# Altium footprint library V2_wearable.PcbLib: 59 footprints (part 3 of 4)
Each footprint in its own frame and in the unit in brackets; x right, y up, seen from the top. Pads: shape width x height; smd on the part's side, far side on the other; paste and mask are expansions set on the pad; w line width, h text height; cw(c..) or ccw(c..) is an arc to the next point about the centre after c.
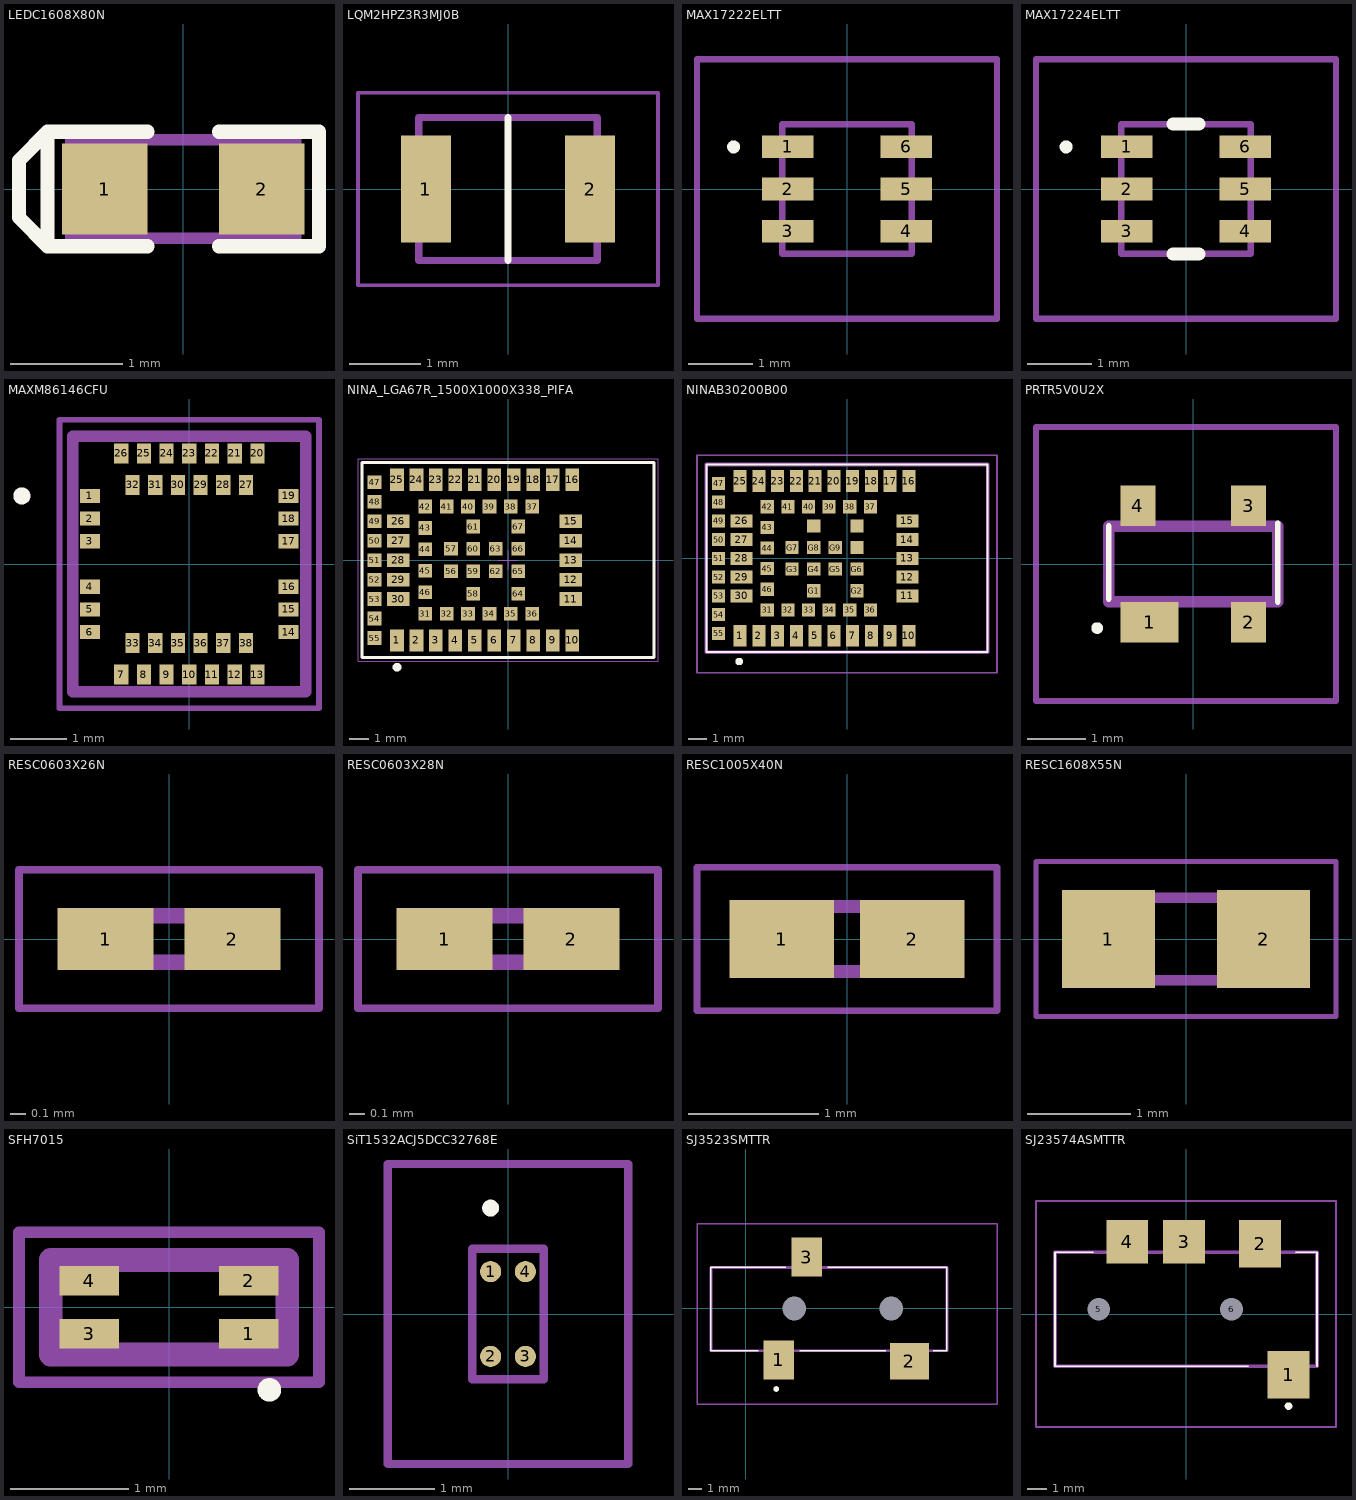
[diagram p2: the footprints below, top view; thin cyan lines are the x and y axes]

## LEDC1608X80N [mil]
pads (2):
  rect 30x32 smd: 1(-27.5,0) 2(27.5,0)
Top Overlay:
  lines w5: -12.5,-20 -47.5,-20 ; -12.5,20 -47.5,20 ; 12.5,-20 47.5,-20 47.5,20 12.5,20 ; -47.5,-20 -47.5,20 ; -47.5,-20 -57.5,-10 -57.5,10 -47.5,20
Mechanical 7:
  lines w3.94: -27.56,-17.26 -27.56,17.26 ; -23.62,-17.26 -23.62,17.26 ; 23.62,-17.26 23.62,17.26 ; 27.56,-17.26 27.56,17.26 ; -39.37,-17.26 39.37,-17.26 39.37,17.26 -39.37,17.26 -39.37,-17.26
  text ".Designator" at -39,22 h12
3D body "LS_Q976-NR-1.stp": height 32.69, standoff 0.8, extent -31.5,-15.75 31.5,15.75

## LQM2HPZ3R3MJ0B [mm]
pads (2):
  rect 0.7x1.5 smd: 1(-1.15,0) 2(1.15,0)
Top Overlay:
  lines w0.1: 0,-1 0,1
Mechanical 13:
  lines w0.1: -1.25,-1 -1.25,1 1.25,1 1.25,-1 -1.25,-1
Mechanical 15:
  lines w0.05: -2.1,-1.35 -2.1,1.35 2.1,1.35 2.1,-1.35 -2.1,-1.35
3D body "LQM2HPN2R2MJ0L.stp": height 1.11, standoff 0.01, extent -1.375,-1.125 1.375,1.125

## MAX17222ELTT [mm]
pads (6):
  rect 0.8x0.35 smd: 1(-0.915,0.65) 2(-0.915,0) 3(-0.915,-0.65) 4(0.915,-0.65) 5(0.915,0) 6(0.915,0.65)
Top Overlay:
  lines w0.1: -1.8,0.65 ccw(c-1.75,0.65) -1.7,0.65 ccw(c-1.75,0.65) -1.8,0.65
Mechanical 13:
  lines w0.1: -1,-1 -1,1 1,1 1,-1 -1,-1
Mechanical 15:
  lines w0.1: -2.315,-2 -2.315,2 2.315,2 2.315,-2 -2.315,-2
3D body "MAX17222ELT+T.stp": height 0.9, standoff 0, extent -1,-1 1,1

## MAX17224ELTT [mm]
pads (6):
  rect 0.8x0.35 smd: 1(-0.915,0.65) 2(-0.915,0) 3(-0.915,-0.65) 4(0.915,-0.65) 5(0.915,0) 6(0.915,0.65)
Top Overlay:
  lines w0.1: -1.9,0.65 cw(c-1.85,0.65) -1.8,0.65 cw(c-1.85,0.65) -1.9,0.65
  lines w0.2: -0.2,-1 0.2,-1 ; -0.2,1 0.2,1
Mechanical 13:
  lines w0.1: -1,-1 -1,1 1,1 1,-1 -1,-1
Mechanical 15:
  lines w0.1: -2.315,-2 -2.315,2 2.315,2 2.315,-2 -2.315,-2
3D body "MAX17224ELT+T.stp": height 0.9, standoff 0, extent -1,-1 1,1

## MAXM86146CFU [mm]
pads (38):
  rect 0.35x0.25 smd: 1(-1.75,1.2) 2(-1.75,0.8) 3(-1.75,0.4) 4(-1.75,-0.4) 5(-1.75,-0.8) 6(-1.75,-1.2) 14(1.75,-1.2) 15(1.75,-0.8) 16(1.75,-0.4) 17(1.75,0.4) 18(1.75,0.8) 19(1.75,1.2)
  rect 0.25x0.35 smd: 7(-1.2,-1.95) 8(-0.8,-1.95) 9(-0.4,-1.95) 10(0,-1.95) 11(0.4,-1.95) 12(0.8,-1.95) 13(1.2,-1.95) 20(1.2,1.95) 21(0.8,1.95) 22(0.4,1.95) 23(0,1.95) 24(-0.4,1.95) 25(-0.8,1.95) 26(-1.2,1.95) 27(1,1.395) 28(0.6,1.395) 29(0.2,1.395) 30(-0.2,1.395) 31(-0.6,1.395) 32(-1,1.395) 33(-1,-1.395) 34(-0.6,-1.395) 35(-0.2,-1.395) 36(0.2,-1.395) 37(0.6,-1.395) 38(1,-1.395)
Top Overlay:
  lines w0.2: -3,1.2 ccw(c-2.95,1.2) -2.9,1.2 ; -3,1.2 cw(c-2.95,1.2) -2.9,1.2 ; -3,1.2 ccw(c-2.95,1.2) -2.9,1.2
Mechanical 13:
  lines w0.2: -2.05,-2.25 -2.05,2.25 2.05,2.25 2.05,-2.25 -2.05,-2.25
Mechanical 15:
  lines w0.1: -2.286,-2.54 -2.286,2.54 2.286,2.54 2.286,-2.54 -2.286,-2.54
3D body "MAXM86146CFU+.stp": height 1.07, standoff 0, extent -2.05,-2.25 2.05,2.25

## NINA_LGA67R_1500X1000X338_PIFA [mm] "Stand-alone Bluetooth low energy module"
height 3.38
pads (67):
  rect 0.7x1.15 smd paste+0 mask+0.05: 1(-5.7,-4.125) 2(-4.7,-4.125) 3(-3.7,-4.125) 4(-2.7,-4.125) 5(-1.7,-4.125) 6(-0.7,-4.125) 7(0.3,-4.125) 8(1.3,-4.125) 9(2.3,-4.125) 10(3.3,-4.125) 16(3.3,4.125) 17(2.3,4.125) 18(1.3,4.125) 19(0.3,4.125) 20(-0.7,4.125) 21(-1.7,4.125) 22(-2.7,4.125) 23(-3.7,4.125) 24(-4.7,4.125) 25(-5.7,4.125)
  rect 1.15x0.7 smd paste+0 mask+0.05: 11(3.225,-2) 12(3.225,-1) 13(3.225,0) 14(3.225,1) 15(3.225,2) 26(-5.625,2) 27(-5.625,1) 28(-5.625,0) 29(-5.625,-1) 30(-5.625,-2)
  rect 0.7x0.7 smd paste+0 mask+0.05: 31(-4.25,-2.75) 32(-3.15,-2.75) 33(-2.05,-2.75) 34(-0.95,-2.75) 35(0.15,-2.75) 36(1.25,-2.75) 37(1.25,2.75) 38(0.15,2.75) 39(-0.95,2.75) 40(-2.05,2.75) 41(-3.15,2.75) 42(-4.25,2.75) 43(-4.25,1.65) 44(-4.25,0.55) 45(-4.25,-0.55) 46(-4.25,-1.65) 47(-6.85,4) 48(-6.85,3) 49(-6.85,2) 50(-6.85,1) 51(-6.85,0) 52(-6.85,-1) 53(-6.85,-2) 54(-6.85,-3) 55(-6.85,-4) 56(-2.925,-0.575) 57(-2.925,0.575) 58(-1.775,-1.725) 59(-1.775,-0.575) 60(-1.775,0.575) 61(-1.775,1.725) 62(-0.625,-0.575) 63(-0.625,0.575) 64(0.525,-1.725) 65(0.525,-0.575) 66(0.525,0.575) 67(0.525,1.725)
Top Overlay:
  circle w0.254: c-5.7,-5.5 r0.1
  lines w0.15: -7.5,-5 7.5,-5 7.5,5 -7.5,5 -7.5,-5
Mechanical 13:
  lines w0.1: -7.5,-5 7.5,-5 7.5,5 -7.5,5 -7.5,-5
Mechanical 15:
  lines w0.05: -0.5,0 0.5,0 ; 0,-0.5 0,0.5 ; -7.7,-5.2 7.7,-5.2 7.7,5.2 -7.7,5.2 -7.7,-5.2
  text ".Designator" at 0.1,0.433 h1
3D body "NINA-B312_mechanical_model.stp": height 3.91, standoff 0.03, extent -7.5,-5 7.5,5

## NINAB30200B00 [mm]
pads (67):
  rect 0.7x1.15 smd: 1(-5.7,-4.125) 2(-4.7,-4.125) 3(-3.7,-4.125) 4(-2.7,-4.125) 5(-1.7,-4.125) 6(-0.7,-4.125) 7(0.3,-4.125) 8(1.3,-4.125) 9(2.3,-4.125) 10(3.3,-4.125) 16(3.3,4.125) 17(2.3,4.125) 18(1.3,4.125) 19(0.3,4.125) 20(-0.7,4.125) 21(-1.7,4.125) 22(-2.7,4.125) 23(-3.7,4.125) 24(-4.7,4.125) 25(-5.7,4.125)
  rect 1.15x0.7 smd: 11(3.225,-2) 12(3.225,-1) 13(3.225,0) 14(3.225,1) 15(3.225,2) 26(-5.625,2) 27(-5.625,1) 28(-5.625,0) 29(-5.625,-1) 30(-5.625,-2)
  rect 0.7x0.7 smd: 31(-4.25,-2.75) 32(-3.15,-2.75) 33(-2.05,-2.75) 34(-0.95,-2.75) 35(0.15,-2.75) 36(1.25,-2.75) 37(1.25,2.75) 38(0.15,2.75) 39(-0.95,2.75) 40(-2.05,2.75) 41(-3.15,2.75) 42(-4.25,2.75) 43(-4.25,1.65) 44(-4.25,0.55) 45(-4.25,-0.55) 46(-4.25,-1.65) 47(-6.85,4) 48(-6.85,3) 49(-6.85,2) 50(-6.85,1) 51(-6.85,0) 52(-6.85,-1) 53(-6.85,-2) 54(-6.85,-3) 55(-6.85,-4) G1(-1.775,-1.725) G2(0.525,-1.725) G3(-2.925,-0.575) G4(-1.775,-0.575) G5(-0.625,-0.575) G6(0.525,-0.575) G7(-2.925,0.575) G8(-1.775,0.575) G9(-0.625,0.575) G10(0.525,0.575) G11(-1.775,1.725) G12(0.525,1.725)
Top Overlay:
  lines w0.1: -7.5,-5 -7.5,5 7.5,5 7.5,-5 -7.5,-5
  lines w0.2: -5.85,-5.5 cw(c-5.75,-5.5) -5.65,-5.5 cw(c-5.75,-5.5) -5.85,-5.5
Mechanical 13:
  lines w0.2: -7.5,-5 -7.5,5 7.5,5 7.5,-5 -7.5,-5
Mechanical 15:
  lines w0.1: -8,-6.1 -8,5.5 8,5.5 8,-6.1 -8,-6.1
3D body "NINA-B302-00B-00.stp": height 3.93, standoff 0, extent -7.5,-5 7.5,5

## PRTR5V0U2X [mm]
pads (4):
  rect 1x0.7 smd: 1(-0.75,-1)
  rect 0.6x0.7 smd: 2(0.95,-1) 3(0.95,1) 4(-0.95,1)
Top Overlay:
  lines w0.1: -1.45,-0.6 -1.45,0.65 ; 1.45,-0.65 1.45,0.7 ; -1.7,-1.1 ccw(c-1.65,-1.1) -1.6,-1.1 ccw(c-1.65,-1.1) -1.7,-1.1
Mechanical 13:
  lines w0.2: -1.45,-0.65 1.45,-0.65 1.45,0.65 -1.45,0.65 -1.45,-0.65
Mechanical 15:
  lines w0.1: -2.7,-2.35 2.45,-2.35 2.45,2.35 -2.7,2.35 -2.7,-2.35
3D body "PRTR5V0U2X.stp": height 0.95, standoff 0, extent -1.47,-1.197 1.43,1.203

## RESC0603X26N [mm]
pads (2):
  rect 0.625x0.4 smd: 1(-0.412,0) 2(0.412,0)
Mechanical 13:
  lines w0.1: -0.3,-0.15 -0.3,0.15 0.3,0.15 0.3,-0.15 -0.3,-0.15
Mechanical 15:
  lines w0.05: -0.975,-0.45 -0.975,0.45 0.975,0.45 0.975,-0.45 -0.975,-0.45
3D body "RC0201FR-07150KL.stp": height 0.26, standoff 0, extent -0.3,-0.15 0.3,0.15

## RESC0603X28N [mm]
pads (2):
  rect 0.625x0.4 smd: 1(-0.412,0) 2(0.412,0)
Mechanical 13:
  lines w0.1: -0.3,-0.15 -0.3,0.15 0.3,0.15 0.3,-0.15 -0.3,-0.15
Mechanical 15:
  lines w0.05: -0.975,-0.45 -0.975,0.45 0.975,0.45 0.975,-0.45 -0.975,-0.45
3D body "CRCW02011M00FNED.stp": height 0.28, standoff 0, extent -0.3,-0.15 0.3,0.15

## RESC1005X40N [mm]
pads (2):
  rect 0.8x0.6 smd: 1(-0.5,0) 2(0.5,0)
Mechanical 13:
  lines w0.1: -0.5,-0.25 0.5,-0.25 0.5,0.25 -0.5,0.25 -0.5,-0.25
Mechanical 15:
  lines w0.05: -1.15,-0.55 1.15,-0.55 1.15,0.55 -1.15,0.55 -1.15,-0.55
3D body "RMCF0402ZT0R00.stp": height 0.3, standoff 0, extent -0.504,-0.246 0.496,0.254

## RESC1608X55N [mm]
pads (2):
  rect 0.9x0.95 smd: 1(-0.75,0) 2(0.75,0)
Mechanical 13:
  lines w0.1: -0.775,-0.4 0.775,-0.4 0.775,0.4 -0.775,0.4 -0.775,-0.4
Mechanical 15:
  lines w0.05: -1.45,-0.75 1.45,-0.75 1.45,0.75 -1.45,0.75 -1.45,-0.75
3D body "RN73C1J324KBTDF.stp": height 0.55, standoff 0, extent -0.775,-0.4 0.775,0.4

## SFH7015 [mm]
pads (4):
  rect 0.5x0.25 smd: 1(0.675,-0.225) 2(0.675,0.225) 3(-0.675,-0.225) 4(-0.675,0.225)
Top Overlay:
  lines w0.1: 0.8,-0.7 ccw(c0.85,-0.7) 0.9,-0.7 ccw(c0.85,-0.7) 0.8,-0.7
Mechanical 13:
  lines w0.2: -1,-0.4 -1,0.4 1,0.4 1,-0.4 -1,-0.4
Mechanical 15:
  lines w0.1: -1.27,-0.635 -1.27,0.635 1.27,0.635 1.27,-0.635 -1.27,-0.635
3D body "SFH_7015.stp": height 0.8, standoff 0, extent -1,-0.4 1,0.4

## SiT1532ACJ5DCC32768E [mm]
pads (4):
  round 0.25 smd: 1(-0.205,0.5) 2(-0.205,-0.5) 3(0.205,-0.5) 4(0.205,0.5)
Top Overlay:
  lines w0.1: -0.205,1.2 cw(c-0.205,1.25) -0.205,1.3 cw(c-0.205,1.25) -0.205,1.2
Mechanical 13:
  lines w0.1: -0.42,-0.77 -0.42,0.77 0.42,0.77 0.42,-0.77 -0.42,-0.77
Mechanical 15:
  lines w0.1: -1.42,-1.77 -1.42,1.77 1.42,1.77 1.42,-1.77 -1.42,-1.77
3D body "SiT1532AC-J5-DCC-32.768E.stp": height 0.7, standoff 0, extent -0.42,-0.77 0.42,0.77

## SJ3523SMTTR [mm]
pads (5):
  rect 2.2x2.8 smd: 1(2.4,-3.7) 3(4.4,3.7)
  rect 2.8x2.6 smd: 2(11.8,-3.8)
  round 0.85 hole 1.7 unplated: MH1(3.5,0) MH2(10.5,0)
Top Overlay:
  lines w0.1: 0.9,-3.05 -2.5,-3.05 -2.5,2.95 2.9,2.95 ; 3.9,-3.05 10.1,-3.05 ; 5.9,2.95 14.5,2.95 ; 13.5,-3.05 14.5,-3.05 14.5,-1.5 14.5,3
  lines w0.2: 2.1,-5.8 cw(c2.2,-5.8) 2.3,-5.8 cw(c2.2,-5.8) 2.1,-5.8
Mechanical 13:
  lines w0.2: -2.5,-3.05 -2.5,2.95 14.5,2.95 14.5,-3.05 -2.5,-3.05
Mechanical 15:
  lines w0.1: -3.5,-6.9 -3.5,6.1 18.1,6.1 18.1,-6.9 -3.5,-6.9
3D body "SJ-3523-SMT-TR.stp": height 5.2, standoff -0.6, extent -2.35,-4.5 16.65,4.5

## SJ23574ASMTTR [mm]
pads (6):
  rect 2.2x2.5 smd: 1(5.4,-3.2) 2(3.9,3.7)
  rect 2.2x2.3 smd: 3(-0.1,3.8) 4(-3.1,3.8)
  round 0.6 hole 1.2 unplated: 5(-4.6,0.25) 6(2.4,0.25)
Top Overlay:
  lines w0.1: -4.9,3.25 -6.9,3.25 -6.9,-2.75 3.26,-2.75 ; 5.8,3.25 6.9,3.25 6.9,-2.75
  lines w0.2: 5.3,-4.85 ccw(c5.4,-4.85) 5.5,-4.85 ccw(c5.4,-4.85) 5.3,-4.85
Mechanical 13:
  lines w0.2: -6.9,-2.75 -6.9,3.25 6.9,3.25 6.9,-2.75 -6.9,-2.75
Mechanical 15:
  lines w0.1: -7.9,-5.95 -7.9,5.95 7.9,5.95 7.9,-5.95 -7.9,-5.95
3D body "SJ2-3574A-SMT-TR.stp": height 5.1, standoff -1.7, extent -6.9,-4.23 6.9,4.73